# Altium footprint library SG_PCB_AltSobor_work.PcbLib: 52 footprints (part 4 of 4)
Each footprint in its own frame and in the unit in brackets; x right, y up, seen from the top. Pads: shape width x height; smd on the part's side, far side on the other; paste and mask are expansions set on the pad; w line width, h text height; cw(c..) or ccw(c..) is an arc to the next point about the centre after c.
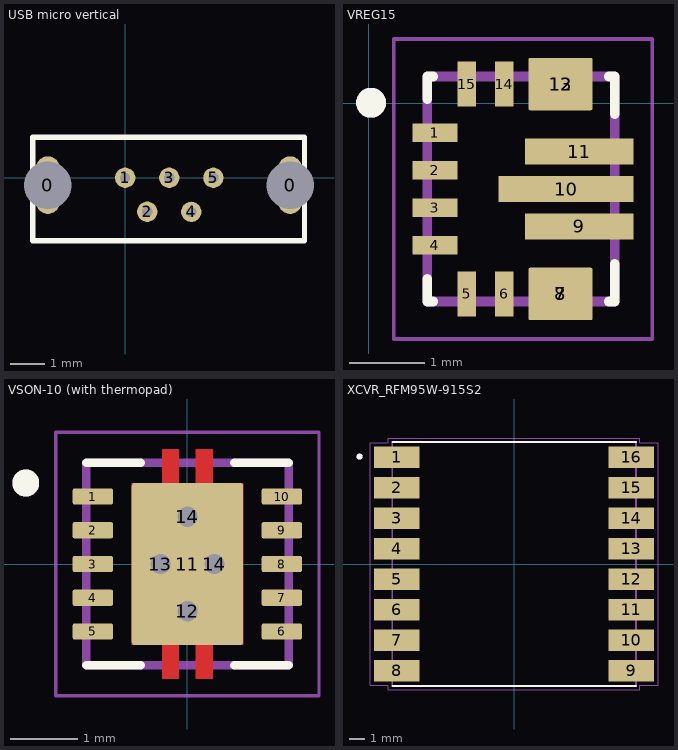
[diagram p3: the footprints below, top view; thin cyan lines are the x and y axes]

## USB micro vertical [mm]
pads (7):
  oval 0.7x1.7 hole 1.4 square: 0(-2.28,-0.21) 0(4.865,-0.21)
  round 0.6 hole 0.3: 1(0,0.005) 2(0.65,-0.995) 3(1.3,0.005) 4(1.95,-1) 5(2.6,0.005)
Top Overlay:
  lines w0.15: -2.725,-1.85 5.29,-1.85 5.29,1.2 -2.725,1.2 -2.725,-1.85
3D body "User Library-Micro USB B THT vertical.STEP": height 0.97, standoff -6.94, extent -2.665,-1.815 5.335,1.2

## VREG15 [mm]
pads (15):
  rrect5% 0.6x0.25 smd mask+0: 1(0.882,-0.393) 2(0.882,-0.893) 3(0.882,-1.393) 4(0.882,-1.893)
  rrect5% 0.25x0.6 smd mask+0: 5(1.307,-2.543) 6(1.807,-2.543) 14(1.807,0.257) 15(1.307,0.257)
  rrect5% 0.85x0.7 smd paste-1 mask+0: 7(2.557,-2.543) 8(2.557,-2.543) 12(2.557,0.257) 13(2.557,0.257)
  rrect5% 1.45x0.35 smd paste-2 mask+0: 9(2.807,-1.643) 11(2.807,-0.643)
  rrect5% 1.8x0.35 smd paste-2 mask+0: 10(2.632,-1.143)
Top Overlay:
  circle w0.2: c0.032,0.007 r0.1
  lines w0.127: 0.782,-2.338 0.782,-2.643 0.862,-2.643 ; 0.782,0.052 0.782,0.357 0.862,0.357 ; 3.202,-2.643 3.282,-2.643 3.282,-2.138 ; 3.202,0.357 3.282,0.357 3.282,-0.148
Top Paste:
  region: 3.483,-1.768 2.907,-1.768 2.907,-1.518 3.483,-1.518
  region: 3.483,-0.768 2.907,-0.768 2.907,-0.518 3.483,-0.518
  region: 2.708,-1.768 2.133,-1.768 2.133,-1.518 2.708,-1.518
  region: 2.708,-0.768 2.133,-0.768 2.133,-0.518 2.708,-0.518
  region: 2.532,-1.268 1.812,-1.268 1.812,-1.018 2.532,-1.018
  region: 3.452,-1.268 2.732,-1.268 2.732,-1.018 3.452,-1.018
  region: 2.932,-0.043 2.182,-0.043 2.182,0.557 2.432,0.557 2.432,0.207 2.682,0.207 2.682,0.557 2.932,0.557
  region: 2.932,-2.843 2.682,-2.843 2.682,-2.493 2.432,-2.493 2.432,-2.843 2.182,-2.843 2.182,-2.243 2.932,-2.243
Top Solder:
  region: 2.932,-0.043 2.182,-0.043 2.182,0.557 2.432,0.557 2.432,0.207 2.682,0.207 2.682,0.557 2.932,0.557
  region: 2.932,-2.843 2.682,-2.843 2.682,-2.493 2.432,-2.493 2.432,-2.843 2.182,-2.843 2.182,-2.243 2.932,-2.243
  region: 1.982,-0.093 1.632,-0.093 1.632,0.607 1.982,0.607
  region: 1.482,-0.093 1.132,-0.093 1.132,0.607 1.482,0.607
  region: 1.982,-2.893 1.632,-2.893 1.632,-2.193 1.982,-2.193
  region: 1.482,-2.893 1.132,-2.893 1.132,-2.193 1.482,-2.193
  region: 1.232,-2.068 0.532,-2.068 0.532,-1.718 1.232,-1.718
  region: 1.232,-1.568 0.532,-1.568 0.532,-1.218 1.232,-1.218
  region: 1.232,-1.068 0.532,-1.068 0.532,-0.718 1.232,-0.718
  region: 1.232,-0.568 0.532,-0.568 0.532,-0.218 1.232,-0.218
  region: 3.482,-1.768 2.132,-1.768 2.132,-1.518 3.482,-1.518
  region: 3.482,-1.268 1.782,-1.268 1.782,-1.018 3.482,-1.018
  region: 3.482,-0.768 2.132,-0.768 2.132,-0.518 3.482,-0.518
Mechanical 13:
  circle w0.2: c0.032,0.007 r0.1
  lines w0.127: 0.782,-2.643 0.782,0.357 3.282,0.357 3.282,-2.643 0.782,-2.643
Mechanical 15:
  lines w0.05: 0.332,-3.143 0.332,0.857 3.782,0.857 3.782,-3.143 0.332,-3.143
3D body "step_temp.STEP": height 1, standoff 0, extent 0.782,-2.643 3.282,0.357

## VSON-10 (with thermopad) [mm]
pads (15):
  rrect25% 0.6x0.24 smd mask+0: 1(-1.4,1) 2(-1.4,0.5) 3(-1.4,0) 4(-1.4,-0.5) 5(-1.4,-1) 6(1.4,-1) 7(1.4,-0.5) 8(1.4,0) 9(1.4,0.5) 10(1.4,1)
  rrect5% 1.65x2.4 smd paste-2 mask+0: 11(0,0)
  round 0.6 hole 0.3 mask+0: 12(0,-0.7) 13(-0.4,0) 14(0,0.7) 14(0.4,0)
Top Layer:
  region: 0.375,1.2 0.825,1.2 0.825,-1.2 0.375,-1.2 0.375,-1.7 0.125,-1.7 0.125,-1.2 -0.125,-1.2 -0.125,-1.7 -0.375,-1.7 -0.375,-1.2 -0.825,-1.2 -0.825,1.2 -0.375,1.2 -0.375,1.7 -0.125,1.7 -0.125,1.2 0.125,1.2 0.125,1.7 0.375,1.7
Top Overlay:
  circle w0.2: c-2.395,1.2 r0.1
  lines w0.127: -1.5,-1.5 -0.695,-1.5 ; -1.5,1.5 -0.695,1.5 ; 0.695,-1.5 1.5,-1.5 ; 0.695,1.5 1.5,1.5
Top Paste:
  region: -0.125,-1.7 -0.375,-1.7 -0.375,-1.36 -0.125,-1.36
  region: 0.375,-1.7 0.125,-1.7 0.125,-1.36 0.375,-1.36
  region: -0.125,1.36 -0.375,1.36 -0.375,1.7 -0.125,1.7
  region: 0.375,1.36 0.125,1.36 0.125,1.7 0.375,1.7
  region: 0.75,-1.16 -0.75,-1.16 -0.75,-0.1 0.75,-0.1
  region: 0.75,0.1 -0.75,0.1 -0.75,1.16 0.75,1.16
Top Solder:
  region: -1.03,0.81 -1.77,0.81 -1.77,1.19 -1.03,1.19
  region: -1.03,0.31 -1.77,0.31 -1.77,0.69 -1.03,0.69
  region: -1.03,-0.19 -1.77,-0.19 -1.77,0.19 -1.03,0.19
  region: -1.03,-0.69 -1.77,-0.69 -1.77,-0.31 -1.03,-0.31
  region: -1.03,-1.19 -1.77,-1.19 -1.77,-0.81 -1.03,-0.81
  region: 1.77,-1.19 1.03,-1.19 1.03,-0.81 1.77,-0.81
  region: 1.77,-0.69 1.03,-0.69 1.03,-0.31 1.77,-0.31
  region: 1.77,-0.19 1.03,-0.19 1.03,0.19 1.77,0.19
  region: 1.77,0.31 1.03,0.31 1.03,0.69 1.77,0.69
  region: 1.77,0.81 1.03,0.81 1.03,1.19 1.77,1.19
  region: 0.445,1.27 0.895,1.27 0.895,-1.27 0.445,-1.27 0.445,-1.77 0.055,-1.77 0.055,-1.27 -0.055,-1.27 -0.055,-1.77 -0.445,-1.77 -0.445,-1.27 -0.895,-1.27 -0.895,1.27 -0.445,1.27 -0.445,1.77 -0.055,1.77 -0.055,1.27 0.055,1.27 0.055,1.77 0.445,1.77
Mechanical 13:
  circle w0.2: c-2.395,1.2 r0.1
  lines w0.127: -1.5,-1.5 1.5,-1.5 1.5,1.5 -1.5,1.5 -1.5,-1.5
Mechanical 15:
  lines w0.05: -1.95,-1.95 1.95,-1.95 1.95,1.95 -1.95,1.95 -1.95,-1.95

## XCVR_RFM95W-915S2 [mm]
pads (16):
  rect 3x1.4 smd: 1(-7.7,7) 2(-7.7,5) 3(-7.7,3) 4(-7.7,1) 5(-7.7,-1) 6(-7.7,-3) 7(-7.7,-5) 8(-7.7,-7) 9(7.7,-7) 10(7.7,-5) 11(7.7,-3) 12(7.7,-1) 13(7.7,1) 14(7.7,3) 15(7.7,5) 16(7.7,7)
Top Overlay:
  circle w0.2: c-10.15,7.05 r0.1
  lines w0.127: -8,-8 8,-8 ; -8,8 8,8
Mechanical 13:
  circle w0.2: c-10.15,7.05 r0.1
  lines w0.127: -8,-8 -8,8 8,8 8,-8 -8,-8
Mechanical 15:
  lines w0.05: -9.45,-7.95 -8.25,-7.95 -8.25,-8.25 8.25,-8.25 8.25,-7.95 9.45,-7.95 9.45,7.95 8.25,7.95 8.25,8.25 -8.25,8.25 -8.25,7.95 -9.45,7.95 -9.45,-7.95